# Altium schematic symbol library DRV8432.SchLib: 1 symbol
Pins are listed as number, name and electrical type; pins without a type are passive.

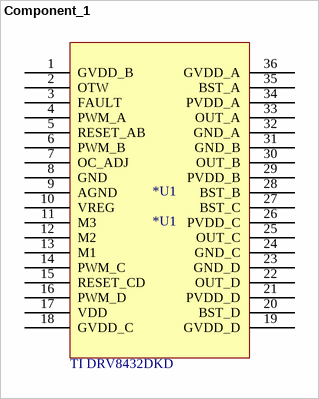
[diagram p0: symbol Component_1]

## Component_1
designator *U1, comment *U1
footprint PCBComponent_1
pins: 1 GVDD_B, 2 OTW, 3 FAULT, 4 PWM_A, 5 RESET_AB, 6 PWM_B, 7 OC_ADJ, 8 GND, 9 AGND, 10 VREG, 11 M3, 12 M2, 13 M1, 14 PWM_C, 15 RESET_CD, 16 PWM_D, 17 VDD, 18 GVDD_C, 19 GVDD_D, 20 BST_D, 21 PVDD_D, 22 OUT_D, 23 GND_D, 24 GND_C, 25 OUT_C, 26 PVDD_C, 27 BST_C, 28 BST_B, 29 PVDD_B, 30 OUT_B, 31 GND_B, 32 GND_A, 33 OUT_A, 34 PVDD_A, 35 BST_A, 36 GVDD_A
text: TI DRV8432DKD